# EAGLE library part S25FL064P (library Custom)
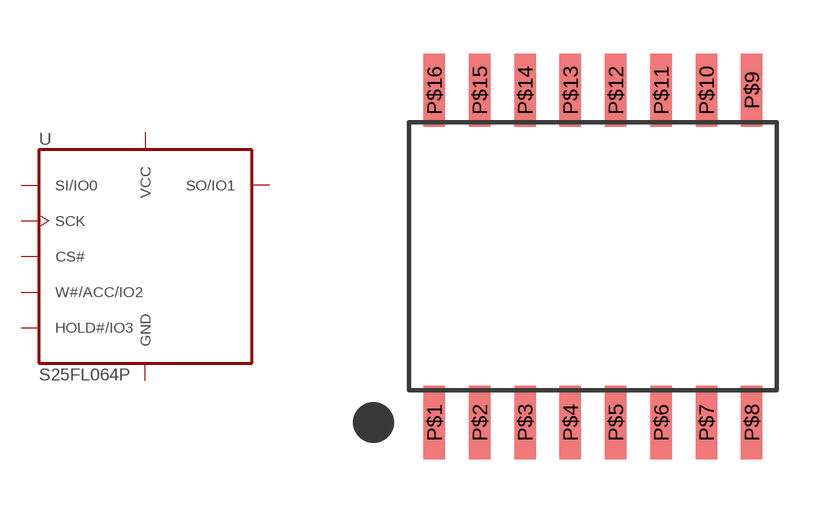
[diagram p8: symbol with the pads of SO3_016; footprint SO3_016]

Designator prefix U

## S25FL064P  [SO3_016]
P$1  HOLD#/IO3
P$2  VCC  pwr
P$7  CS#  in
P$8  SO/IO1
P$9  W#/ACC/IO2
P$10  GND  pwr
P$15  SI/IO0
P$16  SCK  in

## Footprint SO3_016 (pad centres in mm)
smd 0.6 x 2.05: P$1 -4.445,-4.65; P$2 -3.175,-4.65; P$3 -1.905,-4.65; P$4 -0.635,-4.65; P$5 0.635,-4.65; P$6 1.905,-4.65; P$7 3.175,-4.65; P$8 4.445,-4.65; P$9 4.445,4.65; P$10 3.175,4.65; P$11 1.905,4.65; P$12 0.635,4.65; P$13 -0.635,4.65; P$14 -1.905,4.65; P$15 -3.175,4.65; P$16 -4.445,4.65